# Altium integrated library ST Memory EEPROM Flash.IntLib: 1183 symbols (part 16 of 23)
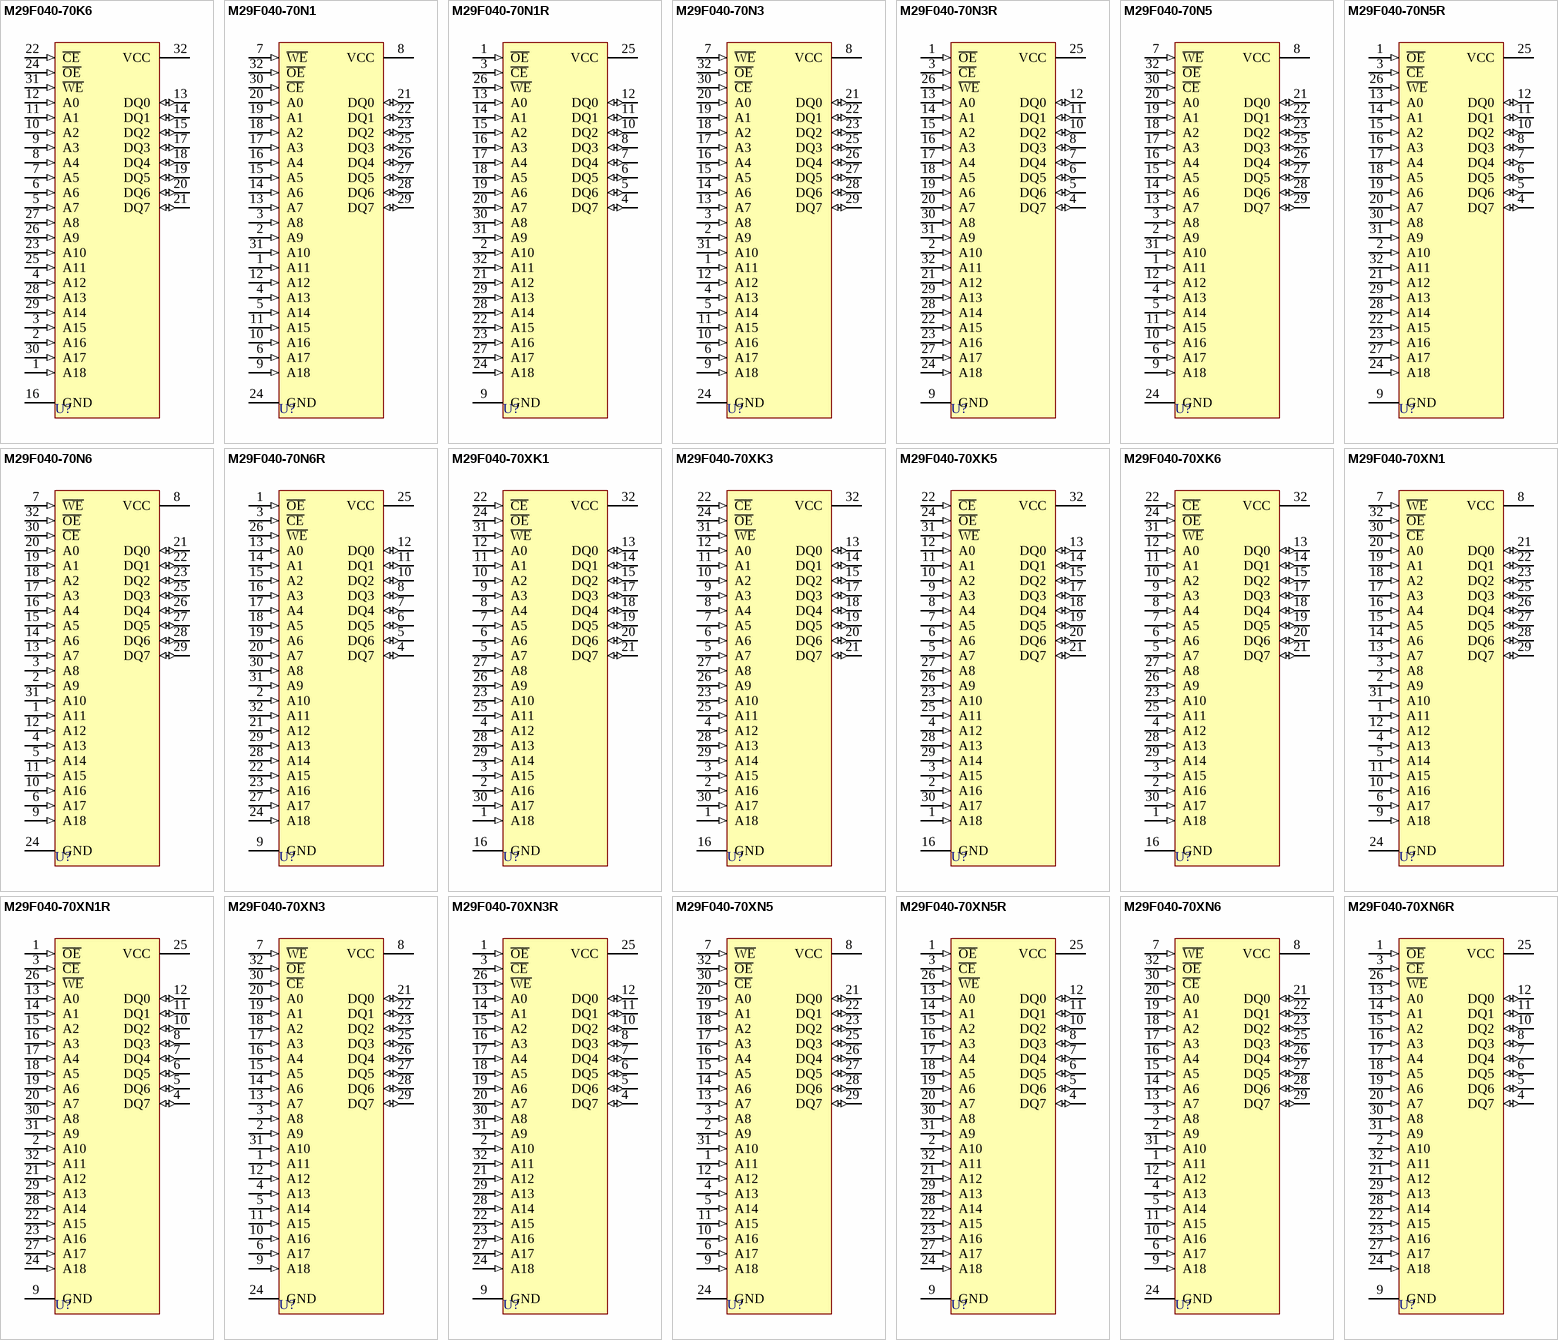
[diagram p96: symbols M29F040-70K6 to M29F040-70XN6R]

## M29F040-70N1
designator U?
4 Mbit (512Kb x8, Block Erase) Single Supply Flash Memory; Published: 24-Aug-2001; LatestRevisionDate: 26-May-2004; LatestRevisionNote: Pad length of PCB Footprint increased.; DatasheetDocument: Nov-1999; PackageDocument: Mar-1999; PackageReference: TSOP32; Publisher: Altium Limited; Code_JEDEC: MO-142-BD
footprint TSOP32 (Shrink Small Outline, Plastic, Thin; 32 Leads; Body Width 18.4 mm; Pitch 0.5 mm)
pins: 1 A11 (in), 2 A9 (in), 3 A8 (in), 4 A13 (in), 5 A14 (in), 6 A17 (in), 7 ~{WE} (in), 8 VCC (power), 9 A18 (in), 10 A16 (in), 11 A15 (in), 12 A12 (in), 13 A7 (in), 14 A6 (in), 15 A5 (in), 16 A4 (in), 17 A3 (in), 18 A2 (in), 19 A1 (in), 20 A0 (in), 21 DQ0 (io), 22 DQ1 (io), 23 DQ2 (io), 24 GND (power), 25 DQ3 (io), 26 DQ4 (io), 27 DQ5 (io), 28 DQ6 (io), 29 DQ7 (io), 30 ~{CE} (in), 31 A10 (in), 32 ~{OE} (in)

## M29F040-70N1R
designator U?
4 Mbit (512Kb x8, Block Erase) Single Supply Flash Memory; Published: 24-Aug-2001; LatestRevisionDate: 26-May-2004; LatestRevisionNote: Pad length of PCB Footprint increased.; DatasheetDocument: Nov-1999; PackageDocument: Mar-1999; PackageReference: TSOP32; Publisher: Altium Limited; Code_JEDEC: MO-142-BD
footprint TSOP32 (Shrink Small Outline, Plastic, Thin; 32 Leads; Body Width 18.4 mm; Pitch 0.5 mm)
pins: 1 ~{OE} (in), 2 A10 (in), 3 ~{CE} (in), 4 DQ7 (io), 5 DQ6 (io), 6 DQ5 (io), 7 DQ4 (io), 8 DQ3 (io), 9 GND (power), 10 DQ2 (io), 11 DQ1 (io), 12 DQ0 (io), 13 A0 (in), 14 A1 (in), 15 A2 (in), 16 A3 (in), 17 A4 (in), 18 A5 (in), 19 A6 (in), 20 A7 (in), 21 A12 (in), 22 A15 (in), 23 A16 (in), 24 A18 (in), 25 VCC (power), 26 ~{WE} (in), 27 A17 (in), 28 A14 (in), 29 A13 (in), 30 A8 (in), 31 A9 (in), 32 A11 (in)

## M29F040-70N3
designator U?
4 Mbit (512Kb x8, Block Erase) Single Supply Flash Memory; Published: 24-Aug-2001; LatestRevisionDate: 26-May-2004; LatestRevisionNote: Pad length of PCB Footprint increased.; DatasheetDocument: Nov-1999; PackageDocument: Mar-1999; PackageReference: TSOP32; Publisher: Altium Limited; Code_JEDEC: MO-142-BD
footprint TSOP32 (Shrink Small Outline, Plastic, Thin; 32 Leads; Body Width 18.4 mm; Pitch 0.5 mm)
pins: 1 A11 (in), 2 A9 (in), 3 A8 (in), 4 A13 (in), 5 A14 (in), 6 A17 (in), 7 ~{WE} (in), 8 VCC (power), 9 A18 (in), 10 A16 (in), 11 A15 (in), 12 A12 (in), 13 A7 (in), 14 A6 (in), 15 A5 (in), 16 A4 (in), 17 A3 (in), 18 A2 (in), 19 A1 (in), 20 A0 (in), 21 DQ0 (io), 22 DQ1 (io), 23 DQ2 (io), 24 GND (power), 25 DQ3 (io), 26 DQ4 (io), 27 DQ5 (io), 28 DQ6 (io), 29 DQ7 (io), 30 ~{CE} (in), 31 A10 (in), 32 ~{OE} (in)

## M29F040-70N3R
designator U?
4 Mbit (512Kb x8, Block Erase) Single Supply Flash Memory; Published: 24-Aug-2001; LatestRevisionDate: 26-May-2004; LatestRevisionNote: Pad length of PCB Footprint increased.; DatasheetDocument: Nov-1999; PackageDocument: Mar-1999; PackageReference: TSOP32; Publisher: Altium Limited; Code_JEDEC: MO-142-BD
footprint TSOP32 (Shrink Small Outline, Plastic, Thin; 32 Leads; Body Width 18.4 mm; Pitch 0.5 mm)
pins: 1 ~{OE} (in), 2 A10 (in), 3 ~{CE} (in), 4 DQ7 (io), 5 DQ6 (io), 6 DQ5 (io), 7 DQ4 (io), 8 DQ3 (io), 9 GND (power), 10 DQ2 (io), 11 DQ1 (io), 12 DQ0 (io), 13 A0 (in), 14 A1 (in), 15 A2 (in), 16 A3 (in), 17 A4 (in), 18 A5 (in), 19 A6 (in), 20 A7 (in), 21 A12 (in), 22 A15 (in), 23 A16 (in), 24 A18 (in), 25 VCC (power), 26 ~{WE} (in), 27 A17 (in), 28 A14 (in), 29 A13 (in), 30 A8 (in), 31 A9 (in), 32 A11 (in)

## M29F040-70N5
designator U?
4 Mbit (512Kb x8, Block Erase) Single Supply Flash Memory; Published: 24-Aug-2001; LatestRevisionDate: 26-May-2004; LatestRevisionNote: Pad length of PCB Footprint increased.; DatasheetDocument: Nov-1999; PackageDocument: Mar-1999; PackageReference: TSOP32; Publisher: Altium Limited; Code_JEDEC: MO-142-BD
footprint TSOP32 (Shrink Small Outline, Plastic, Thin; 32 Leads; Body Width 18.4 mm; Pitch 0.5 mm)
pins: 1 A11 (in), 2 A9 (in), 3 A8 (in), 4 A13 (in), 5 A14 (in), 6 A17 (in), 7 ~{WE} (in), 8 VCC (power), 9 A18 (in), 10 A16 (in), 11 A15 (in), 12 A12 (in), 13 A7 (in), 14 A6 (in), 15 A5 (in), 16 A4 (in), 17 A3 (in), 18 A2 (in), 19 A1 (in), 20 A0 (in), 21 DQ0 (io), 22 DQ1 (io), 23 DQ2 (io), 24 GND (power), 25 DQ3 (io), 26 DQ4 (io), 27 DQ5 (io), 28 DQ6 (io), 29 DQ7 (io), 30 ~{CE} (in), 31 A10 (in), 32 ~{OE} (in)

## M29F040-70N5R
designator U?
4 Mbit (512Kb x8, Block Erase) Single Supply Flash Memory; Published: 24-Aug-2001; LatestRevisionDate: 26-May-2004; LatestRevisionNote: Pad length of PCB Footprint increased.; DatasheetDocument: Nov-1999; PackageDocument: Mar-1999; PackageReference: TSOP32; Publisher: Altium Limited; Code_JEDEC: MO-142-BD
footprint TSOP32 (Shrink Small Outline, Plastic, Thin; 32 Leads; Body Width 18.4 mm; Pitch 0.5 mm)
pins: 1 ~{OE} (in), 2 A10 (in), 3 ~{CE} (in), 4 DQ7 (io), 5 DQ6 (io), 6 DQ5 (io), 7 DQ4 (io), 8 DQ3 (io), 9 GND (power), 10 DQ2 (io), 11 DQ1 (io), 12 DQ0 (io), 13 A0 (in), 14 A1 (in), 15 A2 (in), 16 A3 (in), 17 A4 (in), 18 A5 (in), 19 A6 (in), 20 A7 (in), 21 A12 (in), 22 A15 (in), 23 A16 (in), 24 A18 (in), 25 VCC (power), 26 ~{WE} (in), 27 A17 (in), 28 A14 (in), 29 A13 (in), 30 A8 (in), 31 A9 (in), 32 A11 (in)

## M29F040-70N6
designator U?
4 Mbit (512Kb x8, Block Erase) Single Supply Flash Memory; Published: 24-Aug-2001; LatestRevisionDate: 26-May-2004; LatestRevisionNote: Pad length of PCB Footprint increased.; DatasheetDocument: Nov-1999; PackageDocument: Mar-1999; PackageReference: TSOP32; Publisher: Altium Limited; Code_JEDEC: MO-142-BD
footprint TSOP32 (Shrink Small Outline, Plastic, Thin; 32 Leads; Body Width 18.4 mm; Pitch 0.5 mm)
pins: 1 A11 (in), 2 A9 (in), 3 A8 (in), 4 A13 (in), 5 A14 (in), 6 A17 (in), 7 ~{WE} (in), 8 VCC (power), 9 A18 (in), 10 A16 (in), 11 A15 (in), 12 A12 (in), 13 A7 (in), 14 A6 (in), 15 A5 (in), 16 A4 (in), 17 A3 (in), 18 A2 (in), 19 A1 (in), 20 A0 (in), 21 DQ0 (io), 22 DQ1 (io), 23 DQ2 (io), 24 GND (power), 25 DQ3 (io), 26 DQ4 (io), 27 DQ5 (io), 28 DQ6 (io), 29 DQ7 (io), 30 ~{CE} (in), 31 A10 (in), 32 ~{OE} (in)

## M29F040-70N6R
designator U?
4 Mbit (512Kb x8, Block Erase) Single Supply Flash Memory; Published: 24-Aug-2001; LatestRevisionDate: 26-May-2004; LatestRevisionNote: Pad length of PCB Footprint increased.; DatasheetDocument: Nov-1999; PackageDocument: Mar-1999; PackageReference: TSOP32; Publisher: Altium Limited; Code_JEDEC: MO-142-BD
footprint TSOP32 (Shrink Small Outline, Plastic, Thin; 32 Leads; Body Width 18.4 mm; Pitch 0.5 mm)
pins: 1 ~{OE} (in), 2 A10 (in), 3 ~{CE} (in), 4 DQ7 (io), 5 DQ6 (io), 6 DQ5 (io), 7 DQ4 (io), 8 DQ3 (io), 9 GND (power), 10 DQ2 (io), 11 DQ1 (io), 12 DQ0 (io), 13 A0 (in), 14 A1 (in), 15 A2 (in), 16 A3 (in), 17 A4 (in), 18 A5 (in), 19 A6 (in), 20 A7 (in), 21 A12 (in), 22 A15 (in), 23 A16 (in), 24 A18 (in), 25 VCC (power), 26 ~{WE} (in), 27 A17 (in), 28 A14 (in), 29 A13 (in), 30 A8 (in), 31 A9 (in), 32 A11 (in)

## M29F040-70XK1
designator U?
4 Mbit (512Kb x8, Block Erase) Single Supply Flash Memory; Published: 24-Aug-2001; LatestRevisionDate: 17-Jul-2002; LatestRevisionNote: Re-released for DXP Platform.; DatasheetDocument: Nov-1999; PackageDocument: Jun-1998; PackageReference: PLCC32; Publisher: Altium Limited; Code_JEDEC: MS-016-AE; Code_IPC: PLCC/R-32
footprint PLCC32 (Leaded Chip Carrier; 32 Leads; Body 11.4 x 14 mm)
pins: 1 A18 (in), 2 A16 (in), 3 A15 (in), 4 A12 (in), 5 A7 (in), 6 A6 (in), 7 A5 (in), 8 A4 (in), 9 A3 (in), 10 A2 (in), 11 A1 (in), 12 A0 (in), 13 DQ0 (io), 14 DQ1 (io), 15 DQ2 (io), 16 GND (power), 17 DQ3 (io), 18 DQ4 (io), 19 DQ5 (io), 20 DQ6 (io), 21 DQ7 (io), 22 ~{CE} (in), 23 A10 (in), 24 ~{OE} (in), 25 A11 (in), 26 A9 (in), 27 A8 (in), 28 A13 (in), 29 A14 (in), 30 A17 (in), 31 ~{WE} (in), 32 VCC (power)

## M29F040-70XK3
designator U?
4 Mbit (512Kb x8, Block Erase) Single Supply Flash Memory; Published: 24-Aug-2001; LatestRevisionDate: 17-Jul-2002; LatestRevisionNote: Re-released for DXP Platform.; DatasheetDocument: Nov-1999; PackageDocument: Jun-1998; PackageReference: PLCC32; Publisher: Altium Limited; Code_JEDEC: MS-016-AE; Code_IPC: PLCC/R-32
footprint PLCC32 (Leaded Chip Carrier; 32 Leads; Body 11.4 x 14 mm)
pins: 1 A18 (in), 2 A16 (in), 3 A15 (in), 4 A12 (in), 5 A7 (in), 6 A6 (in), 7 A5 (in), 8 A4 (in), 9 A3 (in), 10 A2 (in), 11 A1 (in), 12 A0 (in), 13 DQ0 (io), 14 DQ1 (io), 15 DQ2 (io), 16 GND (power), 17 DQ3 (io), 18 DQ4 (io), 19 DQ5 (io), 20 DQ6 (io), 21 DQ7 (io), 22 ~{CE} (in), 23 A10 (in), 24 ~{OE} (in), 25 A11 (in), 26 A9 (in), 27 A8 (in), 28 A13 (in), 29 A14 (in), 30 A17 (in), 31 ~{WE} (in), 32 VCC (power)

## M29F040-70XK5
designator U?
4 Mbit (512Kb x8, Block Erase) Single Supply Flash Memory; Published: 24-Aug-2001; LatestRevisionDate: 17-Jul-2002; LatestRevisionNote: Re-released for DXP Platform.; DatasheetDocument: Nov-1999; PackageDocument: Jun-1998; PackageReference: PLCC32; Publisher: Altium Limited; Code_JEDEC: MS-016-AE; Code_IPC: PLCC/R-32
footprint PLCC32 (Leaded Chip Carrier; 32 Leads; Body 11.4 x 14 mm)
pins: 1 A18 (in), 2 A16 (in), 3 A15 (in), 4 A12 (in), 5 A7 (in), 6 A6 (in), 7 A5 (in), 8 A4 (in), 9 A3 (in), 10 A2 (in), 11 A1 (in), 12 A0 (in), 13 DQ0 (io), 14 DQ1 (io), 15 DQ2 (io), 16 GND (power), 17 DQ3 (io), 18 DQ4 (io), 19 DQ5 (io), 20 DQ6 (io), 21 DQ7 (io), 22 ~{CE} (in), 23 A10 (in), 24 ~{OE} (in), 25 A11 (in), 26 A9 (in), 27 A8 (in), 28 A13 (in), 29 A14 (in), 30 A17 (in), 31 ~{WE} (in), 32 VCC (power)

## M29F040-70XK6
designator U?
4 Mbit (512Kb x8, Block Erase) Single Supply Flash Memory; Published: 24-Aug-2001; LatestRevisionDate: 17-Jul-2002; LatestRevisionNote: Re-released for DXP Platform.; DatasheetDocument: Nov-1999; PackageDocument: Jun-1998; PackageReference: PLCC32; Publisher: Altium Limited; Code_JEDEC: MS-016-AE; Code_IPC: PLCC/R-32
footprint PLCC32 (Leaded Chip Carrier; 32 Leads; Body 11.4 x 14 mm)
pins: 1 A18 (in), 2 A16 (in), 3 A15 (in), 4 A12 (in), 5 A7 (in), 6 A6 (in), 7 A5 (in), 8 A4 (in), 9 A3 (in), 10 A2 (in), 11 A1 (in), 12 A0 (in), 13 DQ0 (io), 14 DQ1 (io), 15 DQ2 (io), 16 GND (power), 17 DQ3 (io), 18 DQ4 (io), 19 DQ5 (io), 20 DQ6 (io), 21 DQ7 (io), 22 ~{CE} (in), 23 A10 (in), 24 ~{OE} (in), 25 A11 (in), 26 A9 (in), 27 A8 (in), 28 A13 (in), 29 A14 (in), 30 A17 (in), 31 ~{WE} (in), 32 VCC (power)

## M29F040-70XN1
designator U?
4 Mbit (512Kb x8, Block Erase) Single Supply Flash Memory; Published: 24-Aug-2001; LatestRevisionDate: 26-May-2004; LatestRevisionNote: Pad length of PCB Footprint increased.; DatasheetDocument: Nov-1999; PackageDocument: Mar-1999; PackageReference: TSOP32; Publisher: Altium Limited; Code_JEDEC: MO-142-BD
footprint TSOP32 (Shrink Small Outline, Plastic, Thin; 32 Leads; Body Width 18.4 mm; Pitch 0.5 mm)
pins: 1 A11 (in), 2 A9 (in), 3 A8 (in), 4 A13 (in), 5 A14 (in), 6 A17 (in), 7 ~{WE} (in), 8 VCC (power), 9 A18 (in), 10 A16 (in), 11 A15 (in), 12 A12 (in), 13 A7 (in), 14 A6 (in), 15 A5 (in), 16 A4 (in), 17 A3 (in), 18 A2 (in), 19 A1 (in), 20 A0 (in), 21 DQ0 (io), 22 DQ1 (io), 23 DQ2 (io), 24 GND (power), 25 DQ3 (io), 26 DQ4 (io), 27 DQ5 (io), 28 DQ6 (io), 29 DQ7 (io), 30 ~{CE} (in), 31 A10 (in), 32 ~{OE} (in)

## M29F040-70XN1R
designator U?
4 Mbit (512Kb x8, Block Erase) Single Supply Flash Memory; Published: 24-Aug-2001; LatestRevisionDate: 26-May-2004; LatestRevisionNote: Pad length of PCB Footprint increased.; DatasheetDocument: Nov-1999; PackageDocument: Mar-1999; PackageReference: TSOP32; Publisher: Altium Limited; Code_JEDEC: MO-142-BD
footprint TSOP32 (Shrink Small Outline, Plastic, Thin; 32 Leads; Body Width 18.4 mm; Pitch 0.5 mm)
pins: 1 ~{OE} (in), 2 A10 (in), 3 ~{CE} (in), 4 DQ7 (io), 5 DQ6 (io), 6 DQ5 (io), 7 DQ4 (io), 8 DQ3 (io), 9 GND (power), 10 DQ2 (io), 11 DQ1 (io), 12 DQ0 (io), 13 A0 (in), 14 A1 (in), 15 A2 (in), 16 A3 (in), 17 A4 (in), 18 A5 (in), 19 A6 (in), 20 A7 (in), 21 A12 (in), 22 A15 (in), 23 A16 (in), 24 A18 (in), 25 VCC (power), 26 ~{WE} (in), 27 A17 (in), 28 A14 (in), 29 A13 (in), 30 A8 (in), 31 A9 (in), 32 A11 (in)

## M29F040-70XN3
designator U?
4 Mbit (512Kb x8, Block Erase) Single Supply Flash Memory; Published: 24-Aug-2001; LatestRevisionDate: 26-May-2004; LatestRevisionNote: Pad length of PCB Footprint increased.; DatasheetDocument: Nov-1999; PackageDocument: Mar-1999; PackageReference: TSOP32; Publisher: Altium Limited; Code_JEDEC: MO-142-BD
footprint TSOP32 (Shrink Small Outline, Plastic, Thin; 32 Leads; Body Width 18.4 mm; Pitch 0.5 mm)
pins: 1 A11 (in), 2 A9 (in), 3 A8 (in), 4 A13 (in), 5 A14 (in), 6 A17 (in), 7 ~{WE} (in), 8 VCC (power), 9 A18 (in), 10 A16 (in), 11 A15 (in), 12 A12 (in), 13 A7 (in), 14 A6 (in), 15 A5 (in), 16 A4 (in), 17 A3 (in), 18 A2 (in), 19 A1 (in), 20 A0 (in), 21 DQ0 (io), 22 DQ1 (io), 23 DQ2 (io), 24 GND (power), 25 DQ3 (io), 26 DQ4 (io), 27 DQ5 (io), 28 DQ6 (io), 29 DQ7 (io), 30 ~{CE} (in), 31 A10 (in), 32 ~{OE} (in)

## M29F040-70XN3R
designator U?
4 Mbit (512Kb x8, Block Erase) Single Supply Flash Memory; Published: 24-Aug-2001; LatestRevisionDate: 26-May-2004; LatestRevisionNote: Pad length of PCB Footprint increased.; DatasheetDocument: Nov-1999; PackageDocument: Mar-1999; PackageReference: TSOP32; Publisher: Altium Limited; Code_JEDEC: MO-142-BD
footprint TSOP32 (Shrink Small Outline, Plastic, Thin; 32 Leads; Body Width 18.4 mm; Pitch 0.5 mm)
pins: 1 ~{OE} (in), 2 A10 (in), 3 ~{CE} (in), 4 DQ7 (io), 5 DQ6 (io), 6 DQ5 (io), 7 DQ4 (io), 8 DQ3 (io), 9 GND (power), 10 DQ2 (io), 11 DQ1 (io), 12 DQ0 (io), 13 A0 (in), 14 A1 (in), 15 A2 (in), 16 A3 (in), 17 A4 (in), 18 A5 (in), 19 A6 (in), 20 A7 (in), 21 A12 (in), 22 A15 (in), 23 A16 (in), 24 A18 (in), 25 VCC (power), 26 ~{WE} (in), 27 A17 (in), 28 A14 (in), 29 A13 (in), 30 A8 (in), 31 A9 (in), 32 A11 (in)

## M29F040-70XN5
designator U?
4 Mbit (512Kb x8, Block Erase) Single Supply Flash Memory; Published: 24-Aug-2001; LatestRevisionDate: 26-May-2004; LatestRevisionNote: Pad length of PCB Footprint increased.; DatasheetDocument: Nov-1999; PackageDocument: Mar-1999; PackageReference: TSOP32; Publisher: Altium Limited; Code_JEDEC: MO-142-BD
footprint TSOP32 (Shrink Small Outline, Plastic, Thin; 32 Leads; Body Width 18.4 mm; Pitch 0.5 mm)
pins: 1 A11 (in), 2 A9 (in), 3 A8 (in), 4 A13 (in), 5 A14 (in), 6 A17 (in), 7 ~{WE} (in), 8 VCC (power), 9 A18 (in), 10 A16 (in), 11 A15 (in), 12 A12 (in), 13 A7 (in), 14 A6 (in), 15 A5 (in), 16 A4 (in), 17 A3 (in), 18 A2 (in), 19 A1 (in), 20 A0 (in), 21 DQ0 (io), 22 DQ1 (io), 23 DQ2 (io), 24 GND (power), 25 DQ3 (io), 26 DQ4 (io), 27 DQ5 (io), 28 DQ6 (io), 29 DQ7 (io), 30 ~{CE} (in), 31 A10 (in), 32 ~{OE} (in)

## M29F040-70XN5R
designator U?
4 Mbit (512Kb x8, Block Erase) Single Supply Flash Memory; Published: 24-Aug-2001; LatestRevisionDate: 26-May-2004; LatestRevisionNote: Pad length of PCB Footprint increased.; DatasheetDocument: Nov-1999; PackageDocument: Mar-1999; PackageReference: TSOP32; Publisher: Altium Limited; Code_JEDEC: MO-142-BD
footprint TSOP32 (Shrink Small Outline, Plastic, Thin; 32 Leads; Body Width 18.4 mm; Pitch 0.5 mm)
pins: 1 ~{OE} (in), 2 A10 (in), 3 ~{CE} (in), 4 DQ7 (io), 5 DQ6 (io), 6 DQ5 (io), 7 DQ4 (io), 8 DQ3 (io), 9 GND (power), 10 DQ2 (io), 11 DQ1 (io), 12 DQ0 (io), 13 A0 (in), 14 A1 (in), 15 A2 (in), 16 A3 (in), 17 A4 (in), 18 A5 (in), 19 A6 (in), 20 A7 (in), 21 A12 (in), 22 A15 (in), 23 A16 (in), 24 A18 (in), 25 VCC (power), 26 ~{WE} (in), 27 A17 (in), 28 A14 (in), 29 A13 (in), 30 A8 (in), 31 A9 (in), 32 A11 (in)

## M29F040-70XN6
designator U?
4 Mbit (512Kb x8, Block Erase) Single Supply Flash Memory; Published: 24-Aug-2001; LatestRevisionDate: 26-May-2004; LatestRevisionNote: Pad length of PCB Footprint increased.; DatasheetDocument: Nov-1999; PackageDocument: Mar-1999; PackageReference: TSOP32; Publisher: Altium Limited; Code_JEDEC: MO-142-BD
footprint TSOP32 (Shrink Small Outline, Plastic, Thin; 32 Leads; Body Width 18.4 mm; Pitch 0.5 mm)
pins: 1 A11 (in), 2 A9 (in), 3 A8 (in), 4 A13 (in), 5 A14 (in), 6 A17 (in), 7 ~{WE} (in), 8 VCC (power), 9 A18 (in), 10 A16 (in), 11 A15 (in), 12 A12 (in), 13 A7 (in), 14 A6 (in), 15 A5 (in), 16 A4 (in), 17 A3 (in), 18 A2 (in), 19 A1 (in), 20 A0 (in), 21 DQ0 (io), 22 DQ1 (io), 23 DQ2 (io), 24 GND (power), 25 DQ3 (io), 26 DQ4 (io), 27 DQ5 (io), 28 DQ6 (io), 29 DQ7 (io), 30 ~{CE} (in), 31 A10 (in), 32 ~{OE} (in)

## M29F040-70XN6R
designator U?
4 Mbit (512Kb x8, Block Erase) Single Supply Flash Memory; Published: 24-Aug-2001; LatestRevisionDate: 26-May-2004; LatestRevisionNote: Pad length of PCB Footprint increased.; DatasheetDocument: Nov-1999; PackageDocument: Mar-1999; PackageReference: TSOP32; Publisher: Altium Limited; Code_JEDEC: MO-142-BD
footprint TSOP32 (Shrink Small Outline, Plastic, Thin; 32 Leads; Body Width 18.4 mm; Pitch 0.5 mm)
pins: 1 ~{OE} (in), 2 A10 (in), 3 ~{CE} (in), 4 DQ7 (io), 5 DQ6 (io), 6 DQ5 (io), 7 DQ4 (io), 8 DQ3 (io), 9 GND (power), 10 DQ2 (io), 11 DQ1 (io), 12 DQ0 (io), 13 A0 (in), 14 A1 (in), 15 A2 (in), 16 A3 (in), 17 A4 (in), 18 A5 (in), 19 A6 (in), 20 A7 (in), 21 A12 (in), 22 A15 (in), 23 A16 (in), 24 A18 (in), 25 VCC (power), 26 ~{WE} (in), 27 A17 (in), 28 A14 (in), 29 A13 (in), 30 A8 (in), 31 A9 (in), 32 A11 (in)

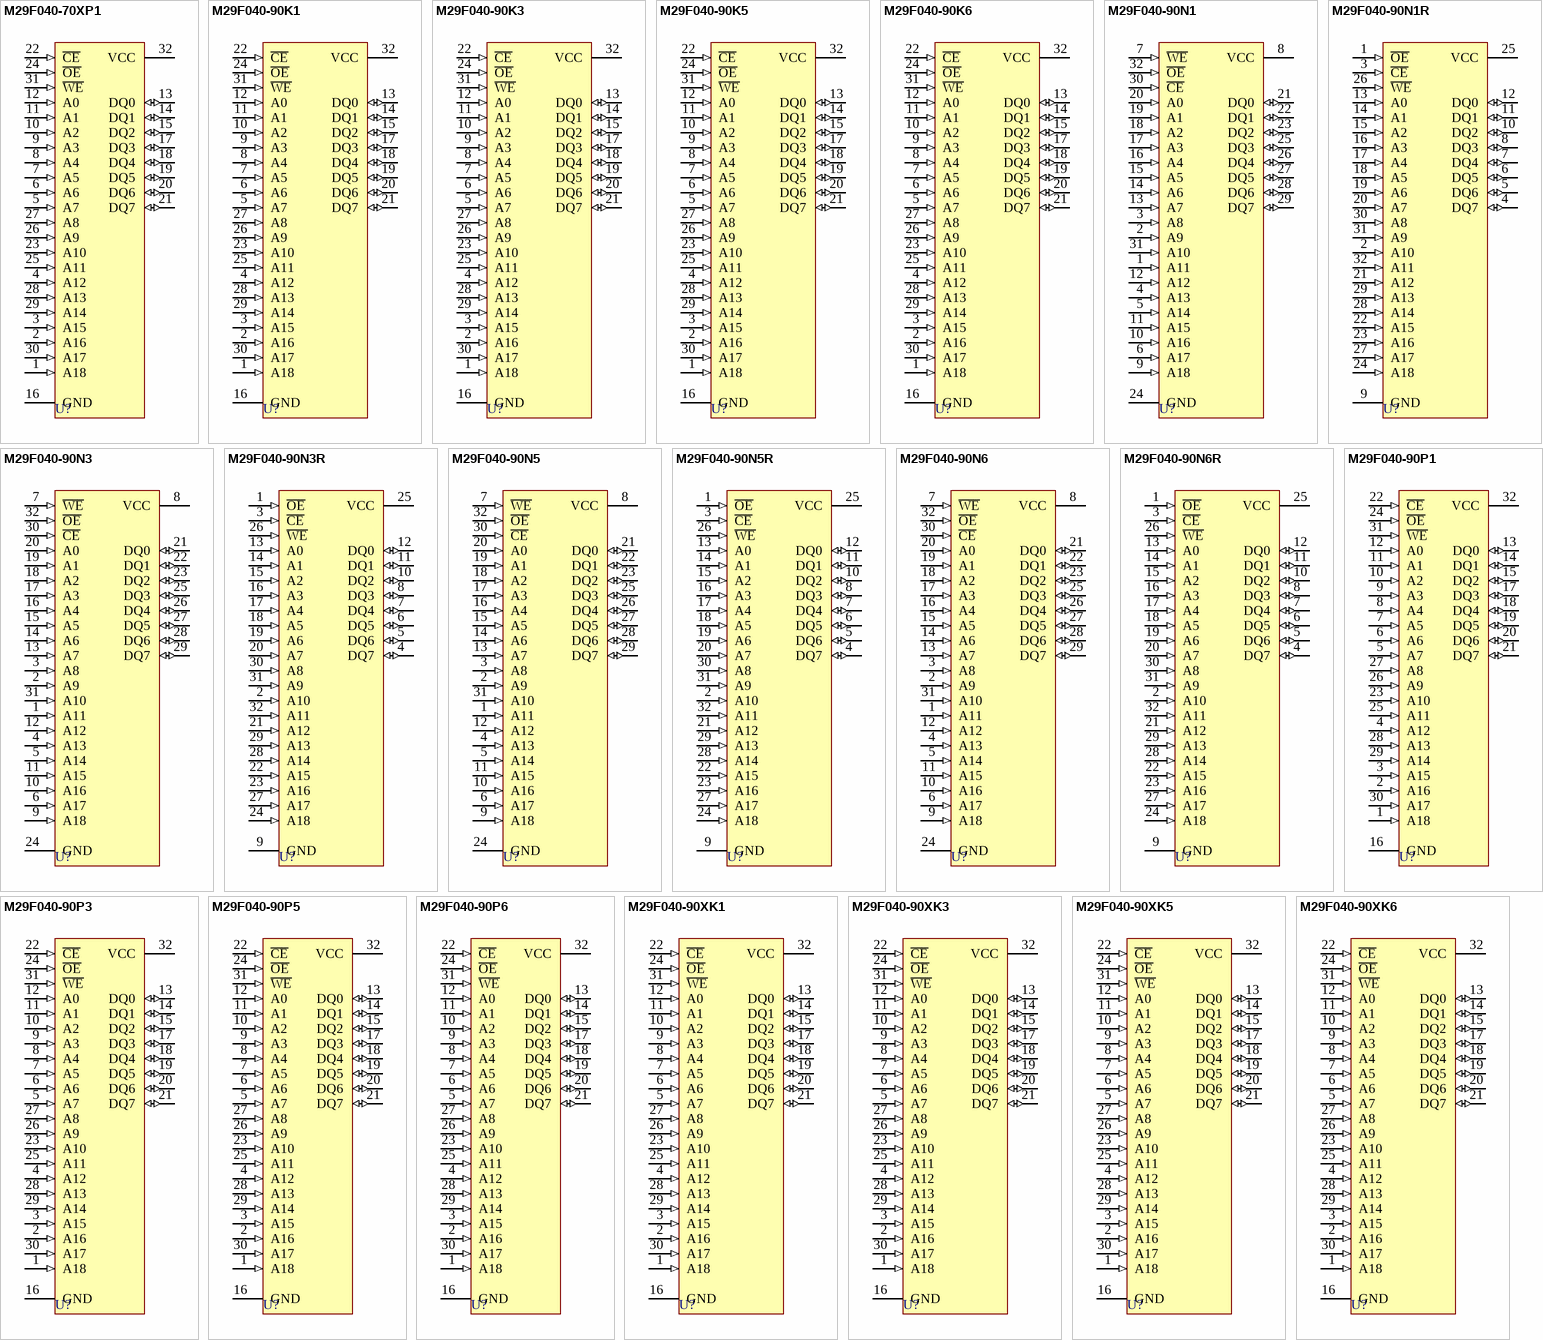
[diagram p53: symbols M29F040-70XP1 to M29F040-90XK6]

## M29F040-70XP1
designator U?
4 Mbit (512K x 8, Block Erase) Single Supply Flash Memory; PackageDocument: 1998; Published: 24-Aug-2001; LatestRevisionDate: 17-Jul-2002; LatestRevisionNote: Re-released for DXP Platform.; DatasheetDocument: Jun-1995; PackageReference: PDIP32; Publisher: Altium Limited
footprint PDIP32 (DIP, Plastic; 32 Leads; Row Spacing 15.24 mm; Pitch 2.54 mm)
pins: 1 A18 (in), 2 A16 (in), 3 A15 (in), 4 A12 (in), 5 A7 (in), 6 A6 (in), 7 A5 (in), 8 A4 (in), 9 A3 (in), 10 A2 (in), 11 A1 (in), 12 A0 (in), 13 DQ0 (io), 14 DQ1 (io), 15 DQ2 (io), 16 GND (power), 17 DQ3 (io), 18 DQ4 (io), 19 DQ5 (io), 20 DQ6 (io), 21 DQ7 (io), 22 ~{CE} (in), 23 A10 (in), 24 ~{OE} (in), 25 A11 (in), 26 A9 (in), 27 A8 (in), 28 A13 (in), 29 A14 (in), 30 A17 (in), 31 ~{WE} (in), 32 VCC (power)

## M29F040-90K1
designator U?
4 Mbit (512Kb x8, Block Erase) Single Supply Flash Memory; Published: 24-Aug-2001; LatestRevisionDate: 17-Jul-2002; LatestRevisionNote: Re-released for DXP Platform.; DatasheetDocument: Nov-1999; PackageDocument: Jun-1998; PackageReference: PLCC32; Publisher: Altium Limited; Code_JEDEC: MS-016-AE; Code_IPC: PLCC/R-32
footprint PLCC32 (Leaded Chip Carrier; 32 Leads; Body 11.4 x 14 mm)
pins: 1 A18 (in), 2 A16 (in), 3 A15 (in), 4 A12 (in), 5 A7 (in), 6 A6 (in), 7 A5 (in), 8 A4 (in), 9 A3 (in), 10 A2 (in), 11 A1 (in), 12 A0 (in), 13 DQ0 (io), 14 DQ1 (io), 15 DQ2 (io), 16 GND (power), 17 DQ3 (io), 18 DQ4 (io), 19 DQ5 (io), 20 DQ6 (io), 21 DQ7 (io), 22 ~{CE} (in), 23 A10 (in), 24 ~{OE} (in), 25 A11 (in), 26 A9 (in), 27 A8 (in), 28 A13 (in), 29 A14 (in), 30 A17 (in), 31 ~{WE} (in), 32 VCC (power)

## M29F040-90K3
designator U?
4 Mbit (512Kb x8, Block Erase) Single Supply Flash Memory; Published: 24-Aug-2001; LatestRevisionDate: 17-Jul-2002; LatestRevisionNote: Re-released for DXP Platform.; DatasheetDocument: Nov-1999; PackageDocument: Jun-1998; PackageReference: PLCC32; Publisher: Altium Limited; Code_JEDEC: MS-016-AE; Code_IPC: PLCC/R-32
footprint PLCC32 (Leaded Chip Carrier; 32 Leads; Body 11.4 x 14 mm)
pins: 1 A18 (in), 2 A16 (in), 3 A15 (in), 4 A12 (in), 5 A7 (in), 6 A6 (in), 7 A5 (in), 8 A4 (in), 9 A3 (in), 10 A2 (in), 11 A1 (in), 12 A0 (in), 13 DQ0 (io), 14 DQ1 (io), 15 DQ2 (io), 16 GND (power), 17 DQ3 (io), 18 DQ4 (io), 19 DQ5 (io), 20 DQ6 (io), 21 DQ7 (io), 22 ~{CE} (in), 23 A10 (in), 24 ~{OE} (in), 25 A11 (in), 26 A9 (in), 27 A8 (in), 28 A13 (in), 29 A14 (in), 30 A17 (in), 31 ~{WE} (in), 32 VCC (power)

## M29F040-90K5
designator U?
4 Mbit (512Kb x8, Block Erase) Single Supply Flash Memory; Published: 24-Aug-2001; LatestRevisionDate: 17-Jul-2002; LatestRevisionNote: Re-released for DXP Platform.; DatasheetDocument: Nov-1999; PackageDocument: Jun-1998; PackageReference: PLCC32; Publisher: Altium Limited; Code_JEDEC: MS-016-AE; Code_IPC: PLCC/R-32
footprint PLCC32 (Leaded Chip Carrier; 32 Leads; Body 11.4 x 14 mm)
pins: 1 A18 (in), 2 A16 (in), 3 A15 (in), 4 A12 (in), 5 A7 (in), 6 A6 (in), 7 A5 (in), 8 A4 (in), 9 A3 (in), 10 A2 (in), 11 A1 (in), 12 A0 (in), 13 DQ0 (io), 14 DQ1 (io), 15 DQ2 (io), 16 GND (power), 17 DQ3 (io), 18 DQ4 (io), 19 DQ5 (io), 20 DQ6 (io), 21 DQ7 (io), 22 ~{CE} (in), 23 A10 (in), 24 ~{OE} (in), 25 A11 (in), 26 A9 (in), 27 A8 (in), 28 A13 (in), 29 A14 (in), 30 A17 (in), 31 ~{WE} (in), 32 VCC (power)

## M29F040-90K6
designator U?
4 Mbit (512Kb x8, Block Erase) Single Supply Flash Memory; Published: 24-Aug-2001; LatestRevisionDate: 17-Jul-2002; LatestRevisionNote: Re-released for DXP Platform.; DatasheetDocument: Nov-1999; PackageDocument: Jun-1998; PackageReference: PLCC32; Publisher: Altium Limited; Code_JEDEC: MS-016-AE; Code_IPC: PLCC/R-32
footprint PLCC32 (Leaded Chip Carrier; 32 Leads; Body 11.4 x 14 mm)
pins: 1 A18 (in), 2 A16 (in), 3 A15 (in), 4 A12 (in), 5 A7 (in), 6 A6 (in), 7 A5 (in), 8 A4 (in), 9 A3 (in), 10 A2 (in), 11 A1 (in), 12 A0 (in), 13 DQ0 (io), 14 DQ1 (io), 15 DQ2 (io), 16 GND (power), 17 DQ3 (io), 18 DQ4 (io), 19 DQ5 (io), 20 DQ6 (io), 21 DQ7 (io), 22 ~{CE} (in), 23 A10 (in), 24 ~{OE} (in), 25 A11 (in), 26 A9 (in), 27 A8 (in), 28 A13 (in), 29 A14 (in), 30 A17 (in), 31 ~{WE} (in), 32 VCC (power)

## M29F040-90N1
designator U?
4 Mbit (512Kb x8, Block Erase) Single Supply Flash Memory; Published: 24-Aug-2001; LatestRevisionDate: 26-May-2004; LatestRevisionNote: Pad length of PCB Footprint increased.; DatasheetDocument: Nov-1999; PackageDocument: Mar-1999; PackageReference: TSOP32; Publisher: Altium Limited; Code_JEDEC: MO-142-BD
footprint TSOP32 (Shrink Small Outline, Plastic, Thin; 32 Leads; Body Width 18.4 mm; Pitch 0.5 mm)
pins: 1 A11 (in), 2 A9 (in), 3 A8 (in), 4 A13 (in), 5 A14 (in), 6 A17 (in), 7 ~{WE} (in), 8 VCC (power), 9 A18 (in), 10 A16 (in), 11 A15 (in), 12 A12 (in), 13 A7 (in), 14 A6 (in), 15 A5 (in), 16 A4 (in), 17 A3 (in), 18 A2 (in), 19 A1 (in), 20 A0 (in), 21 DQ0 (io), 22 DQ1 (io), 23 DQ2 (io), 24 GND (power), 25 DQ3 (io), 26 DQ4 (io), 27 DQ5 (io), 28 DQ6 (io), 29 DQ7 (io), 30 ~{CE} (in), 31 A10 (in), 32 ~{OE} (in)

## M29F040-90N1R
designator U?
4 Mbit (512Kb x8, Block Erase) Single Supply Flash Memory; Published: 24-Aug-2001; LatestRevisionDate: 26-May-2004; LatestRevisionNote: Pad length of PCB Footprint increased.; DatasheetDocument: Nov-1999; PackageDocument: Mar-1999; PackageReference: TSOP32; Publisher: Altium Limited; Code_JEDEC: MO-142-BD
footprint TSOP32 (Shrink Small Outline, Plastic, Thin; 32 Leads; Body Width 18.4 mm; Pitch 0.5 mm)
pins: 1 ~{OE} (in), 2 A10 (in), 3 ~{CE} (in), 4 DQ7 (io), 5 DQ6 (io), 6 DQ5 (io), 7 DQ4 (io), 8 DQ3 (io), 9 GND (power), 10 DQ2 (io), 11 DQ1 (io), 12 DQ0 (io), 13 A0 (in), 14 A1 (in), 15 A2 (in), 16 A3 (in), 17 A4 (in), 18 A5 (in), 19 A6 (in), 20 A7 (in), 21 A12 (in), 22 A15 (in), 23 A16 (in), 24 A18 (in), 25 VCC (power), 26 ~{WE} (in), 27 A17 (in), 28 A14 (in), 29 A13 (in), 30 A8 (in), 31 A9 (in), 32 A11 (in)

## M29F040-90N3
designator U?
4 Mbit (512Kb x8, Block Erase) Single Supply Flash Memory; Published: 24-Aug-2001; LatestRevisionDate: 26-May-2004; LatestRevisionNote: Pad length of PCB Footprint increased.; DatasheetDocument: Nov-1999; PackageDocument: Mar-1999; PackageReference: TSOP32; Publisher: Altium Limited; Code_JEDEC: MO-142-BD
footprint TSOP32 (Shrink Small Outline, Plastic, Thin; 32 Leads; Body Width 18.4 mm; Pitch 0.5 mm)
pins: 1 A11 (in), 2 A9 (in), 3 A8 (in), 4 A13 (in), 5 A14 (in), 6 A17 (in), 7 ~{WE} (in), 8 VCC (power), 9 A18 (in), 10 A16 (in), 11 A15 (in), 12 A12 (in), 13 A7 (in), 14 A6 (in), 15 A5 (in), 16 A4 (in), 17 A3 (in), 18 A2 (in), 19 A1 (in), 20 A0 (in), 21 DQ0 (io), 22 DQ1 (io), 23 DQ2 (io), 24 GND (power), 25 DQ3 (io), 26 DQ4 (io), 27 DQ5 (io), 28 DQ6 (io), 29 DQ7 (io), 30 ~{CE} (in), 31 A10 (in), 32 ~{OE} (in)

## M29F040-90N3R
designator U?
4 Mbit (512Kb x8, Block Erase) Single Supply Flash Memory; Published: 24-Aug-2001; LatestRevisionDate: 26-May-2004; LatestRevisionNote: Pad length of PCB Footprint increased.; DatasheetDocument: Nov-1999; PackageDocument: Mar-1999; PackageReference: TSOP32; Publisher: Altium Limited; Code_JEDEC: MO-142-BD
footprint TSOP32 (Shrink Small Outline, Plastic, Thin; 32 Leads; Body Width 18.4 mm; Pitch 0.5 mm)
pins: 1 ~{OE} (in), 2 A10 (in), 3 ~{CE} (in), 4 DQ7 (io), 5 DQ6 (io), 6 DQ5 (io), 7 DQ4 (io), 8 DQ3 (io), 9 GND (power), 10 DQ2 (io), 11 DQ1 (io), 12 DQ0 (io), 13 A0 (in), 14 A1 (in), 15 A2 (in), 16 A3 (in), 17 A4 (in), 18 A5 (in), 19 A6 (in), 20 A7 (in), 21 A12 (in), 22 A15 (in), 23 A16 (in), 24 A18 (in), 25 VCC (power), 26 ~{WE} (in), 27 A17 (in), 28 A14 (in), 29 A13 (in), 30 A8 (in), 31 A9 (in), 32 A11 (in)

## M29F040-90N5
designator U?
4 Mbit (512Kb x8, Block Erase) Single Supply Flash Memory; Published: 24-Aug-2001; LatestRevisionDate: 26-May-2004; LatestRevisionNote: Pad length of PCB Footprint increased.; DatasheetDocument: Nov-1999; PackageDocument: Mar-1999; PackageReference: TSOP32; Publisher: Altium Limited; Code_JEDEC: MO-142-BD
footprint TSOP32 (Shrink Small Outline, Plastic, Thin; 32 Leads; Body Width 18.4 mm; Pitch 0.5 mm)
pins: 1 A11 (in), 2 A9 (in), 3 A8 (in), 4 A13 (in), 5 A14 (in), 6 A17 (in), 7 ~{WE} (in), 8 VCC (power), 9 A18 (in), 10 A16 (in), 11 A15 (in), 12 A12 (in), 13 A7 (in), 14 A6 (in), 15 A5 (in), 16 A4 (in), 17 A3 (in), 18 A2 (in), 19 A1 (in), 20 A0 (in), 21 DQ0 (io), 22 DQ1 (io), 23 DQ2 (io), 24 GND (power), 25 DQ3 (io), 26 DQ4 (io), 27 DQ5 (io), 28 DQ6 (io), 29 DQ7 (io), 30 ~{CE} (in), 31 A10 (in), 32 ~{OE} (in)

## M29F040-90N5R
designator U?
4 Mbit (512Kb x8, Block Erase) Single Supply Flash Memory; Published: 24-Aug-2001; LatestRevisionDate: 26-May-2004; LatestRevisionNote: Pad length of PCB Footprint increased.; DatasheetDocument: Nov-1999; PackageDocument: Mar-1999; PackageReference: TSOP32; Publisher: Altium Limited; Code_JEDEC: MO-142-BD
footprint TSOP32 (Shrink Small Outline, Plastic, Thin; 32 Leads; Body Width 18.4 mm; Pitch 0.5 mm)
pins: 1 ~{OE} (in), 2 A10 (in), 3 ~{CE} (in), 4 DQ7 (io), 5 DQ6 (io), 6 DQ5 (io), 7 DQ4 (io), 8 DQ3 (io), 9 GND (power), 10 DQ2 (io), 11 DQ1 (io), 12 DQ0 (io), 13 A0 (in), 14 A1 (in), 15 A2 (in), 16 A3 (in), 17 A4 (in), 18 A5 (in), 19 A6 (in), 20 A7 (in), 21 A12 (in), 22 A15 (in), 23 A16 (in), 24 A18 (in), 25 VCC (power), 26 ~{WE} (in), 27 A17 (in), 28 A14 (in), 29 A13 (in), 30 A8 (in), 31 A9 (in), 32 A11 (in)

## M29F040-90N6
designator U?
4 Mbit (512Kb x8, Block Erase) Single Supply Flash Memory; Published: 24-Aug-2001; LatestRevisionDate: 26-May-2004; LatestRevisionNote: Pad length of PCB Footprint increased.; DatasheetDocument: Nov-1999; PackageDocument: Mar-1999; PackageReference: TSOP32; Publisher: Altium Limited; Code_JEDEC: MO-142-BD
footprint TSOP32 (Shrink Small Outline, Plastic, Thin; 32 Leads; Body Width 18.4 mm; Pitch 0.5 mm)
pins: 1 A11 (in), 2 A9 (in), 3 A8 (in), 4 A13 (in), 5 A14 (in), 6 A17 (in), 7 ~{WE} (in), 8 VCC (power), 9 A18 (in), 10 A16 (in), 11 A15 (in), 12 A12 (in), 13 A7 (in), 14 A6 (in), 15 A5 (in), 16 A4 (in), 17 A3 (in), 18 A2 (in), 19 A1 (in), 20 A0 (in), 21 DQ0 (io), 22 DQ1 (io), 23 DQ2 (io), 24 GND (power), 25 DQ3 (io), 26 DQ4 (io), 27 DQ5 (io), 28 DQ6 (io), 29 DQ7 (io), 30 ~{CE} (in), 31 A10 (in), 32 ~{OE} (in)

## M29F040-90N6R
designator U?
4 Mbit (512Kb x8, Block Erase) Single Supply Flash Memory; Published: 24-Aug-2001; LatestRevisionDate: 26-May-2004; LatestRevisionNote: Pad length of PCB Footprint increased.; DatasheetDocument: Nov-1999; PackageDocument: Mar-1999; PackageReference: TSOP32; Publisher: Altium Limited; Code_JEDEC: MO-142-BD
footprint TSOP32 (Shrink Small Outline, Plastic, Thin; 32 Leads; Body Width 18.4 mm; Pitch 0.5 mm)
pins: 1 ~{OE} (in), 2 A10 (in), 3 ~{CE} (in), 4 DQ7 (io), 5 DQ6 (io), 6 DQ5 (io), 7 DQ4 (io), 8 DQ3 (io), 9 GND (power), 10 DQ2 (io), 11 DQ1 (io), 12 DQ0 (io), 13 A0 (in), 14 A1 (in), 15 A2 (in), 16 A3 (in), 17 A4 (in), 18 A5 (in), 19 A6 (in), 20 A7 (in), 21 A12 (in), 22 A15 (in), 23 A16 (in), 24 A18 (in), 25 VCC (power), 26 ~{WE} (in), 27 A17 (in), 28 A14 (in), 29 A13 (in), 30 A8 (in), 31 A9 (in), 32 A11 (in)

## M29F040-90P1
designator U?
4 Mbit (512K x 8, Block Erase) Single Supply Flash Memory; PackageDocument: 1998; Published: 24-Aug-2001; LatestRevisionDate: 17-Jul-2002; LatestRevisionNote: Re-released for DXP Platform.; DatasheetDocument: Jun-1995; PackageReference: PDIP32; Publisher: Altium Limited
footprint PDIP32 (DIP, Plastic; 32 Leads; Row Spacing 15.24 mm; Pitch 2.54 mm)
pins: 1 A18 (in), 2 A16 (in), 3 A15 (in), 4 A12 (in), 5 A7 (in), 6 A6 (in), 7 A5 (in), 8 A4 (in), 9 A3 (in), 10 A2 (in), 11 A1 (in), 12 A0 (in), 13 DQ0 (io), 14 DQ1 (io), 15 DQ2 (io), 16 GND (power), 17 DQ3 (io), 18 DQ4 (io), 19 DQ5 (io), 20 DQ6 (io), 21 DQ7 (io), 22 ~{CE} (in), 23 A10 (in), 24 ~{OE} (in), 25 A11 (in), 26 A9 (in), 27 A8 (in), 28 A13 (in), 29 A14 (in), 30 A17 (in), 31 ~{WE} (in), 32 VCC (power)

## M29F040-90P3
designator U?
4 Mbit (512K x 8, Block Erase) Single Supply Flash Memory; PackageDocument: 1998; Published: 24-Aug-2001; LatestRevisionDate: 17-Jul-2002; LatestRevisionNote: Re-released for DXP Platform.; DatasheetDocument: Jun-1995; PackageReference: PDIP32; Publisher: Altium Limited
footprint PDIP32 (DIP, Plastic; 32 Leads; Row Spacing 15.24 mm; Pitch 2.54 mm)
pins: 1 A18 (in), 2 A16 (in), 3 A15 (in), 4 A12 (in), 5 A7 (in), 6 A6 (in), 7 A5 (in), 8 A4 (in), 9 A3 (in), 10 A2 (in), 11 A1 (in), 12 A0 (in), 13 DQ0 (io), 14 DQ1 (io), 15 DQ2 (io), 16 GND (power), 17 DQ3 (io), 18 DQ4 (io), 19 DQ5 (io), 20 DQ6 (io), 21 DQ7 (io), 22 ~{CE} (in), 23 A10 (in), 24 ~{OE} (in), 25 A11 (in), 26 A9 (in), 27 A8 (in), 28 A13 (in), 29 A14 (in), 30 A17 (in), 31 ~{WE} (in), 32 VCC (power)

## M29F040-90P5
designator U?
4 Mbit (512K x 8, Block Erase) Single Supply Flash Memory; PackageDocument: 1998; Published: 24-Aug-2001; LatestRevisionDate: 17-Jul-2002; LatestRevisionNote: Re-released for DXP Platform.; DatasheetDocument: Jun-1995; PackageReference: PDIP32; Publisher: Altium Limited
footprint PDIP32 (DIP, Plastic; 32 Leads; Row Spacing 15.24 mm; Pitch 2.54 mm)
pins: 1 A18 (in), 2 A16 (in), 3 A15 (in), 4 A12 (in), 5 A7 (in), 6 A6 (in), 7 A5 (in), 8 A4 (in), 9 A3 (in), 10 A2 (in), 11 A1 (in), 12 A0 (in), 13 DQ0 (io), 14 DQ1 (io), 15 DQ2 (io), 16 GND (power), 17 DQ3 (io), 18 DQ4 (io), 19 DQ5 (io), 20 DQ6 (io), 21 DQ7 (io), 22 ~{CE} (in), 23 A10 (in), 24 ~{OE} (in), 25 A11 (in), 26 A9 (in), 27 A8 (in), 28 A13 (in), 29 A14 (in), 30 A17 (in), 31 ~{WE} (in), 32 VCC (power)

## M29F040-90P6
designator U?
4 Mbit (512K x 8, Block Erase) Single Supply Flash Memory; PackageDocument: 1998; Published: 24-Aug-2001; LatestRevisionDate: 17-Jul-2002; LatestRevisionNote: Re-released for DXP Platform.; DatasheetDocument: Jun-1995; PackageReference: PDIP32; Publisher: Altium Limited
footprint PDIP32 (DIP, Plastic; 32 Leads; Row Spacing 15.24 mm; Pitch 2.54 mm)
pins: 1 A18 (in), 2 A16 (in), 3 A15 (in), 4 A12 (in), 5 A7 (in), 6 A6 (in), 7 A5 (in), 8 A4 (in), 9 A3 (in), 10 A2 (in), 11 A1 (in), 12 A0 (in), 13 DQ0 (io), 14 DQ1 (io), 15 DQ2 (io), 16 GND (power), 17 DQ3 (io), 18 DQ4 (io), 19 DQ5 (io), 20 DQ6 (io), 21 DQ7 (io), 22 ~{CE} (in), 23 A10 (in), 24 ~{OE} (in), 25 A11 (in), 26 A9 (in), 27 A8 (in), 28 A13 (in), 29 A14 (in), 30 A17 (in), 31 ~{WE} (in), 32 VCC (power)

## M29F040-90XK1
designator U?
4 Mbit (512Kb x8, Block Erase) Single Supply Flash Memory; Published: 24-Aug-2001; LatestRevisionDate: 17-Jul-2002; LatestRevisionNote: Re-released for DXP Platform.; DatasheetDocument: Nov-1999; PackageDocument: Jun-1998; PackageReference: PLCC32; Publisher: Altium Limited; Code_JEDEC: MS-016-AE; Code_IPC: PLCC/R-32
footprint PLCC32 (Leaded Chip Carrier; 32 Leads; Body 11.4 x 14 mm)
pins: 1 A18 (in), 2 A16 (in), 3 A15 (in), 4 A12 (in), 5 A7 (in), 6 A6 (in), 7 A5 (in), 8 A4 (in), 9 A3 (in), 10 A2 (in), 11 A1 (in), 12 A0 (in), 13 DQ0 (io), 14 DQ1 (io), 15 DQ2 (io), 16 GND (power), 17 DQ3 (io), 18 DQ4 (io), 19 DQ5 (io), 20 DQ6 (io), 21 DQ7 (io), 22 ~{CE} (in), 23 A10 (in), 24 ~{OE} (in), 25 A11 (in), 26 A9 (in), 27 A8 (in), 28 A13 (in), 29 A14 (in), 30 A17 (in), 31 ~{WE} (in), 32 VCC (power)

## M29F040-90XK3
designator U?
4 Mbit (512Kb x8, Block Erase) Single Supply Flash Memory; Published: 24-Aug-2001; LatestRevisionDate: 17-Jul-2002; LatestRevisionNote: Re-released for DXP Platform.; DatasheetDocument: Nov-1999; PackageDocument: Jun-1998; PackageReference: PLCC32; Publisher: Altium Limited; Code_JEDEC: MS-016-AE; Code_IPC: PLCC/R-32
footprint PLCC32 (Leaded Chip Carrier; 32 Leads; Body 11.4 x 14 mm)
pins: 1 A18 (in), 2 A16 (in), 3 A15 (in), 4 A12 (in), 5 A7 (in), 6 A6 (in), 7 A5 (in), 8 A4 (in), 9 A3 (in), 10 A2 (in), 11 A1 (in), 12 A0 (in), 13 DQ0 (io), 14 DQ1 (io), 15 DQ2 (io), 16 GND (power), 17 DQ3 (io), 18 DQ4 (io), 19 DQ5 (io), 20 DQ6 (io), 21 DQ7 (io), 22 ~{CE} (in), 23 A10 (in), 24 ~{OE} (in), 25 A11 (in), 26 A9 (in), 27 A8 (in), 28 A13 (in), 29 A14 (in), 30 A17 (in), 31 ~{WE} (in), 32 VCC (power)

## M29F040-90XK5
designator U?
4 Mbit (512Kb x8, Block Erase) Single Supply Flash Memory; Published: 24-Aug-2001; LatestRevisionDate: 17-Jul-2002; LatestRevisionNote: Re-released for DXP Platform.; DatasheetDocument: Nov-1999; PackageDocument: Jun-1998; PackageReference: PLCC32; Publisher: Altium Limited; Code_JEDEC: MS-016-AE; Code_IPC: PLCC/R-32
footprint PLCC32 (Leaded Chip Carrier; 32 Leads; Body 11.4 x 14 mm)
pins: 1 A18 (in), 2 A16 (in), 3 A15 (in), 4 A12 (in), 5 A7 (in), 6 A6 (in), 7 A5 (in), 8 A4 (in), 9 A3 (in), 10 A2 (in), 11 A1 (in), 12 A0 (in), 13 DQ0 (io), 14 DQ1 (io), 15 DQ2 (io), 16 GND (power), 17 DQ3 (io), 18 DQ4 (io), 19 DQ5 (io), 20 DQ6 (io), 21 DQ7 (io), 22 ~{CE} (in), 23 A10 (in), 24 ~{OE} (in), 25 A11 (in), 26 A9 (in), 27 A8 (in), 28 A13 (in), 29 A14 (in), 30 A17 (in), 31 ~{WE} (in), 32 VCC (power)

## M29F040-90XK6
designator U?
4 Mbit (512Kb x8, Block Erase) Single Supply Flash Memory; Published: 24-Aug-2001; LatestRevisionDate: 17-Jul-2002; LatestRevisionNote: Re-released for DXP Platform.; DatasheetDocument: Nov-1999; PackageDocument: Jun-1998; PackageReference: PLCC32; Publisher: Altium Limited; Code_JEDEC: MS-016-AE; Code_IPC: PLCC/R-32
footprint PLCC32 (Leaded Chip Carrier; 32 Leads; Body 11.4 x 14 mm)
pins: 1 A18 (in), 2 A16 (in), 3 A15 (in), 4 A12 (in), 5 A7 (in), 6 A6 (in), 7 A5 (in), 8 A4 (in), 9 A3 (in), 10 A2 (in), 11 A1 (in), 12 A0 (in), 13 DQ0 (io), 14 DQ1 (io), 15 DQ2 (io), 16 GND (power), 17 DQ3 (io), 18 DQ4 (io), 19 DQ5 (io), 20 DQ6 (io), 21 DQ7 (io), 22 ~{CE} (in), 23 A10 (in), 24 ~{OE} (in), 25 A11 (in), 26 A9 (in), 27 A8 (in), 28 A13 (in), 29 A14 (in), 30 A17 (in), 31 ~{WE} (in), 32 VCC (power)

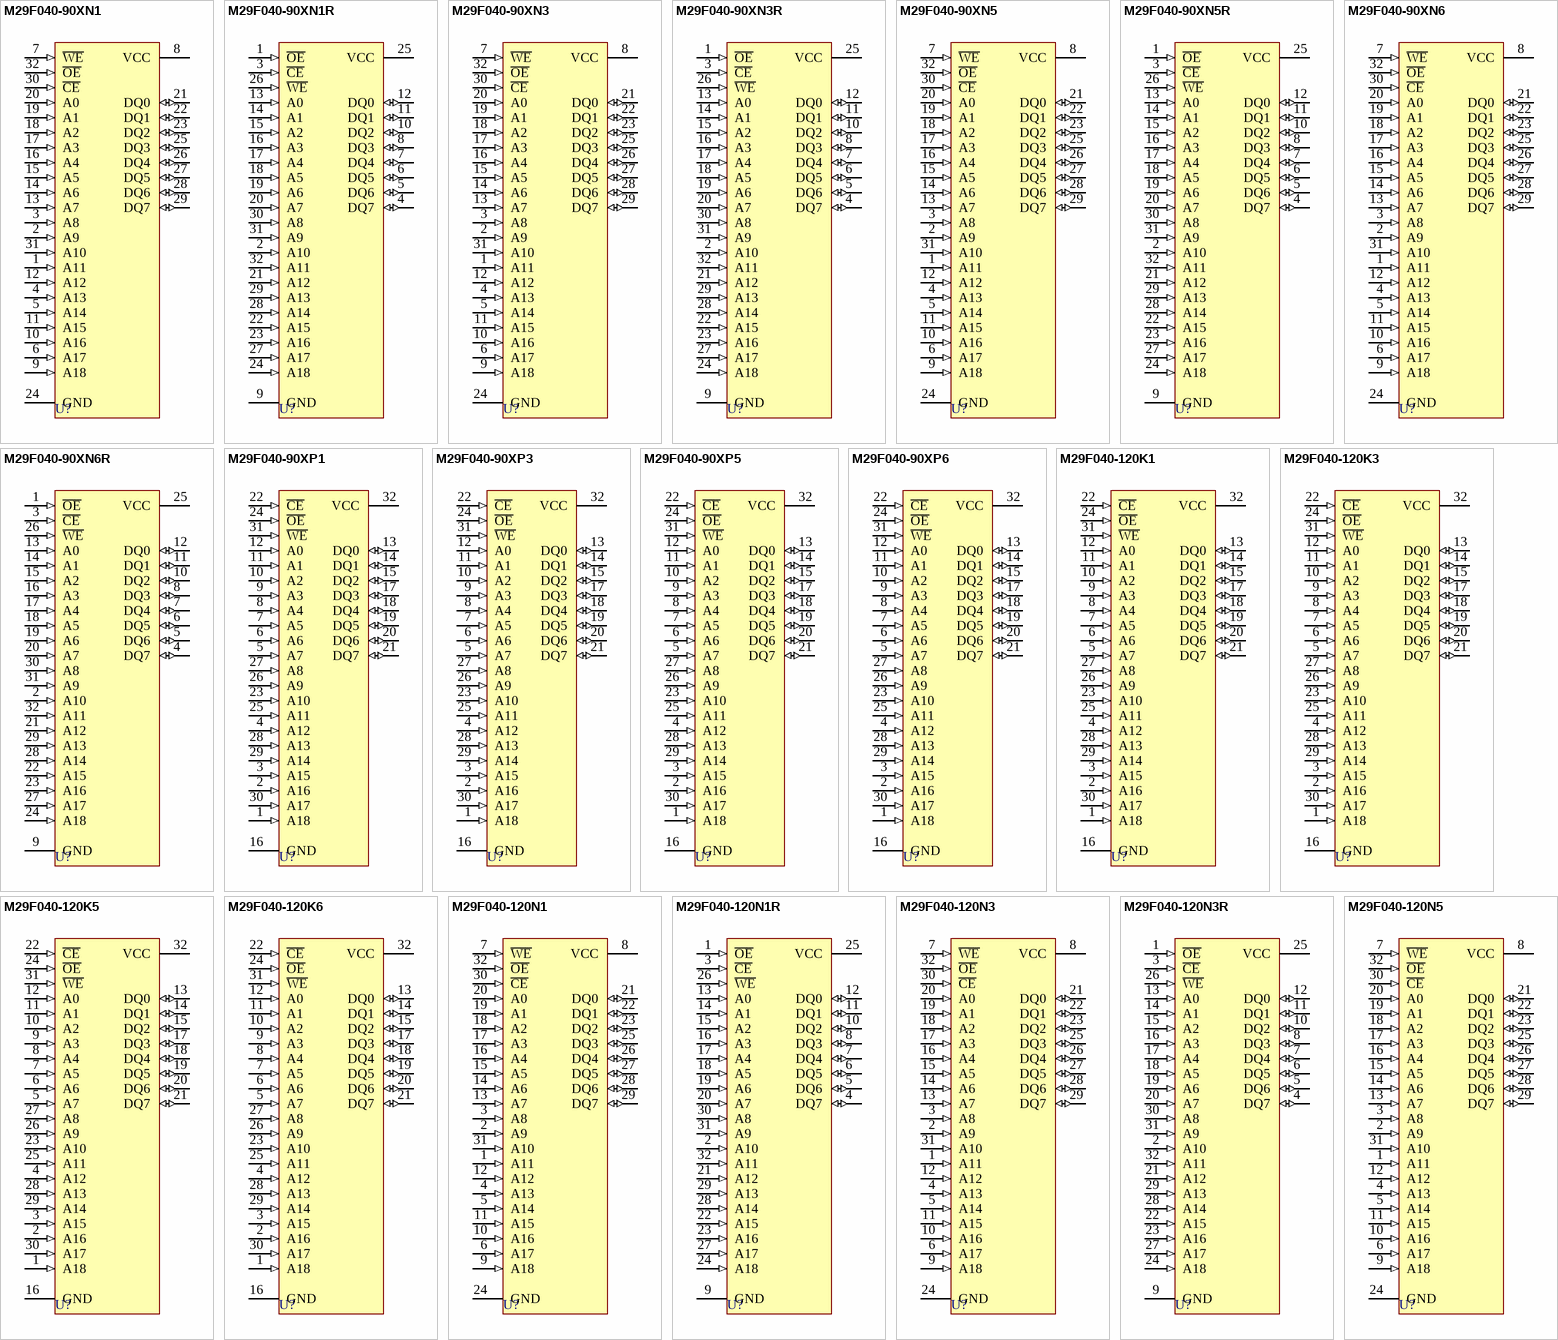
[diagram p54: symbols M29F040-90XN1 to M29F040-120N5]

## M29F040-90XN1
designator U?
4 Mbit (512Kb x8, Block Erase) Single Supply Flash Memory; Published: 24-Aug-2001; LatestRevisionDate: 26-May-2004; LatestRevisionNote: Pad length of PCB Footprint increased.; DatasheetDocument: Nov-1999; PackageDocument: Mar-1999; PackageReference: TSOP32; Publisher: Altium Limited; Code_JEDEC: MO-142-BD
footprint TSOP32 (Shrink Small Outline, Plastic, Thin; 32 Leads; Body Width 18.4 mm; Pitch 0.5 mm)
pins: 1 A11 (in), 2 A9 (in), 3 A8 (in), 4 A13 (in), 5 A14 (in), 6 A17 (in), 7 ~{WE} (in), 8 VCC (power), 9 A18 (in), 10 A16 (in), 11 A15 (in), 12 A12 (in), 13 A7 (in), 14 A6 (in), 15 A5 (in), 16 A4 (in), 17 A3 (in), 18 A2 (in), 19 A1 (in), 20 A0 (in), 21 DQ0 (io), 22 DQ1 (io), 23 DQ2 (io), 24 GND (power), 25 DQ3 (io), 26 DQ4 (io), 27 DQ5 (io), 28 DQ6 (io), 29 DQ7 (io), 30 ~{CE} (in), 31 A10 (in), 32 ~{OE} (in)

## M29F040-90XN1R
designator U?
4 Mbit (512Kb x8, Block Erase) Single Supply Flash Memory; Published: 24-Aug-2001; LatestRevisionDate: 26-May-2004; LatestRevisionNote: Pad length of PCB Footprint increased.; DatasheetDocument: Nov-1999; PackageDocument: Mar-1999; PackageReference: TSOP32; Publisher: Altium Limited; Code_JEDEC: MO-142-BD
footprint TSOP32 (Shrink Small Outline, Plastic, Thin; 32 Leads; Body Width 18.4 mm; Pitch 0.5 mm)
pins: 1 ~{OE} (in), 2 A10 (in), 3 ~{CE} (in), 4 DQ7 (io), 5 DQ6 (io), 6 DQ5 (io), 7 DQ4 (io), 8 DQ3 (io), 9 GND (power), 10 DQ2 (io), 11 DQ1 (io), 12 DQ0 (io), 13 A0 (in), 14 A1 (in), 15 A2 (in), 16 A3 (in), 17 A4 (in), 18 A5 (in), 19 A6 (in), 20 A7 (in), 21 A12 (in), 22 A15 (in), 23 A16 (in), 24 A18 (in), 25 VCC (power), 26 ~{WE} (in), 27 A17 (in), 28 A14 (in), 29 A13 (in), 30 A8 (in), 31 A9 (in), 32 A11 (in)

## M29F040-90XN3
designator U?
4 Mbit (512Kb x8, Block Erase) Single Supply Flash Memory; Published: 24-Aug-2001; LatestRevisionDate: 26-May-2004; LatestRevisionNote: Pad length of PCB Footprint increased.; DatasheetDocument: Nov-1999; PackageDocument: Mar-1999; PackageReference: TSOP32; Publisher: Altium Limited; Code_JEDEC: MO-142-BD
footprint TSOP32 (Shrink Small Outline, Plastic, Thin; 32 Leads; Body Width 18.4 mm; Pitch 0.5 mm)
pins: 1 A11 (in), 2 A9 (in), 3 A8 (in), 4 A13 (in), 5 A14 (in), 6 A17 (in), 7 ~{WE} (in), 8 VCC (power), 9 A18 (in), 10 A16 (in), 11 A15 (in), 12 A12 (in), 13 A7 (in), 14 A6 (in), 15 A5 (in), 16 A4 (in), 17 A3 (in), 18 A2 (in), 19 A1 (in), 20 A0 (in), 21 DQ0 (io), 22 DQ1 (io), 23 DQ2 (io), 24 GND (power), 25 DQ3 (io), 26 DQ4 (io), 27 DQ5 (io), 28 DQ6 (io), 29 DQ7 (io), 30 ~{CE} (in), 31 A10 (in), 32 ~{OE} (in)

## M29F040-90XN3R
designator U?
4 Mbit (512Kb x8, Block Erase) Single Supply Flash Memory; Published: 24-Aug-2001; LatestRevisionDate: 26-May-2004; LatestRevisionNote: Pad length of PCB Footprint increased.; DatasheetDocument: Nov-1999; PackageDocument: Mar-1999; PackageReference: TSOP32; Publisher: Altium Limited; Code_JEDEC: MO-142-BD
footprint TSOP32 (Shrink Small Outline, Plastic, Thin; 32 Leads; Body Width 18.4 mm; Pitch 0.5 mm)
pins: 1 ~{OE} (in), 2 A10 (in), 3 ~{CE} (in), 4 DQ7 (io), 5 DQ6 (io), 6 DQ5 (io), 7 DQ4 (io), 8 DQ3 (io), 9 GND (power), 10 DQ2 (io), 11 DQ1 (io), 12 DQ0 (io), 13 A0 (in), 14 A1 (in), 15 A2 (in), 16 A3 (in), 17 A4 (in), 18 A5 (in), 19 A6 (in), 20 A7 (in), 21 A12 (in), 22 A15 (in), 23 A16 (in), 24 A18 (in), 25 VCC (power), 26 ~{WE} (in), 27 A17 (in), 28 A14 (in), 29 A13 (in), 30 A8 (in), 31 A9 (in), 32 A11 (in)

## M29F040-90XN5
designator U?
4 Mbit (512Kb x8, Block Erase) Single Supply Flash Memory; Published: 24-Aug-2001; LatestRevisionDate: 26-May-2004; LatestRevisionNote: Pad length of PCB Footprint increased.; DatasheetDocument: Nov-1999; PackageDocument: Mar-1999; PackageReference: TSOP32; Publisher: Altium Limited; Code_JEDEC: MO-142-BD
footprint TSOP32 (Shrink Small Outline, Plastic, Thin; 32 Leads; Body Width 18.4 mm; Pitch 0.5 mm)
pins: 1 A11 (in), 2 A9 (in), 3 A8 (in), 4 A13 (in), 5 A14 (in), 6 A17 (in), 7 ~{WE} (in), 8 VCC (power), 9 A18 (in), 10 A16 (in), 11 A15 (in), 12 A12 (in), 13 A7 (in), 14 A6 (in), 15 A5 (in), 16 A4 (in), 17 A3 (in), 18 A2 (in), 19 A1 (in), 20 A0 (in), 21 DQ0 (io), 22 DQ1 (io), 23 DQ2 (io), 24 GND (power), 25 DQ3 (io), 26 DQ4 (io), 27 DQ5 (io), 28 DQ6 (io), 29 DQ7 (io), 30 ~{CE} (in), 31 A10 (in), 32 ~{OE} (in)

## M29F040-90XN5R
designator U?
4 Mbit (512Kb x8, Block Erase) Single Supply Flash Memory; Published: 24-Aug-2001; LatestRevisionDate: 26-May-2004; LatestRevisionNote: Pad length of PCB Footprint increased.; DatasheetDocument: Nov-1999; PackageDocument: Mar-1999; PackageReference: TSOP32; Publisher: Altium Limited; Code_JEDEC: MO-142-BD
footprint TSOP32 (Shrink Small Outline, Plastic, Thin; 32 Leads; Body Width 18.4 mm; Pitch 0.5 mm)
pins: 1 ~{OE} (in), 2 A10 (in), 3 ~{CE} (in), 4 DQ7 (io), 5 DQ6 (io), 6 DQ5 (io), 7 DQ4 (io), 8 DQ3 (io), 9 GND (power), 10 DQ2 (io), 11 DQ1 (io), 12 DQ0 (io), 13 A0 (in), 14 A1 (in), 15 A2 (in), 16 A3 (in), 17 A4 (in), 18 A5 (in), 19 A6 (in), 20 A7 (in), 21 A12 (in), 22 A15 (in), 23 A16 (in), 24 A18 (in), 25 VCC (power), 26 ~{WE} (in), 27 A17 (in), 28 A14 (in), 29 A13 (in), 30 A8 (in), 31 A9 (in), 32 A11 (in)

## M29F040-90XN6
designator U?
4 Mbit (512Kb x8, Block Erase) Single Supply Flash Memory; Published: 24-Aug-2001; LatestRevisionDate: 26-May-2004; LatestRevisionNote: Pad length of PCB Footprint increased.; DatasheetDocument: Nov-1999; PackageDocument: Mar-1999; PackageReference: TSOP32; Publisher: Altium Limited; Code_JEDEC: MO-142-BD
footprint TSOP32 (Shrink Small Outline, Plastic, Thin; 32 Leads; Body Width 18.4 mm; Pitch 0.5 mm)
pins: 1 A11 (in), 2 A9 (in), 3 A8 (in), 4 A13 (in), 5 A14 (in), 6 A17 (in), 7 ~{WE} (in), 8 VCC (power), 9 A18 (in), 10 A16 (in), 11 A15 (in), 12 A12 (in), 13 A7 (in), 14 A6 (in), 15 A5 (in), 16 A4 (in), 17 A3 (in), 18 A2 (in), 19 A1 (in), 20 A0 (in), 21 DQ0 (io), 22 DQ1 (io), 23 DQ2 (io), 24 GND (power), 25 DQ3 (io), 26 DQ4 (io), 27 DQ5 (io), 28 DQ6 (io), 29 DQ7 (io), 30 ~{CE} (in), 31 A10 (in), 32 ~{OE} (in)

## M29F040-90XN6R
designator U?
4 Mbit (512Kb x8, Block Erase) Single Supply Flash Memory; Published: 24-Aug-2001; LatestRevisionDate: 26-May-2004; LatestRevisionNote: Pad length of PCB Footprint increased.; DatasheetDocument: Nov-1999; PackageDocument: Mar-1999; PackageReference: TSOP32; Publisher: Altium Limited; Code_JEDEC: MO-142-BD
footprint TSOP32 (Shrink Small Outline, Plastic, Thin; 32 Leads; Body Width 18.4 mm; Pitch 0.5 mm)
pins: 1 ~{OE} (in), 2 A10 (in), 3 ~{CE} (in), 4 DQ7 (io), 5 DQ6 (io), 6 DQ5 (io), 7 DQ4 (io), 8 DQ3 (io), 9 GND (power), 10 DQ2 (io), 11 DQ1 (io), 12 DQ0 (io), 13 A0 (in), 14 A1 (in), 15 A2 (in), 16 A3 (in), 17 A4 (in), 18 A5 (in), 19 A6 (in), 20 A7 (in), 21 A12 (in), 22 A15 (in), 23 A16 (in), 24 A18 (in), 25 VCC (power), 26 ~{WE} (in), 27 A17 (in), 28 A14 (in), 29 A13 (in), 30 A8 (in), 31 A9 (in), 32 A11 (in)

## M29F040-90XP1
designator U?
4 Mbit (512K x 8, Block Erase) Single Supply Flash Memory; PackageDocument: 1998; Published: 24-Aug-2001; LatestRevisionDate: 17-Jul-2002; LatestRevisionNote: Re-released for DXP Platform.; DatasheetDocument: Jun-1995; PackageReference: PDIP32; Publisher: Altium Limited
footprint PDIP32 (DIP, Plastic; 32 Leads; Row Spacing 15.24 mm; Pitch 2.54 mm)
pins: 1 A18 (in), 2 A16 (in), 3 A15 (in), 4 A12 (in), 5 A7 (in), 6 A6 (in), 7 A5 (in), 8 A4 (in), 9 A3 (in), 10 A2 (in), 11 A1 (in), 12 A0 (in), 13 DQ0 (io), 14 DQ1 (io), 15 DQ2 (io), 16 GND (power), 17 DQ3 (io), 18 DQ4 (io), 19 DQ5 (io), 20 DQ6 (io), 21 DQ7 (io), 22 ~{CE} (in), 23 A10 (in), 24 ~{OE} (in), 25 A11 (in), 26 A9 (in), 27 A8 (in), 28 A13 (in), 29 A14 (in), 30 A17 (in), 31 ~{WE} (in), 32 VCC (power)

## M29F040-90XP3
designator U?
4 Mbit (512K x 8, Block Erase) Single Supply Flash Memory; PackageDocument: 1998; Published: 24-Aug-2001; LatestRevisionDate: 17-Jul-2002; LatestRevisionNote: Re-released for DXP Platform.; DatasheetDocument: Jun-1995; PackageReference: PDIP32; Publisher: Altium Limited
footprint PDIP32 (DIP, Plastic; 32 Leads; Row Spacing 15.24 mm; Pitch 2.54 mm)
pins: 1 A18 (in), 2 A16 (in), 3 A15 (in), 4 A12 (in), 5 A7 (in), 6 A6 (in), 7 A5 (in), 8 A4 (in), 9 A3 (in), 10 A2 (in), 11 A1 (in), 12 A0 (in), 13 DQ0 (io), 14 DQ1 (io), 15 DQ2 (io), 16 GND (power), 17 DQ3 (io), 18 DQ4 (io), 19 DQ5 (io), 20 DQ6 (io), 21 DQ7 (io), 22 ~{CE} (in), 23 A10 (in), 24 ~{OE} (in), 25 A11 (in), 26 A9 (in), 27 A8 (in), 28 A13 (in), 29 A14 (in), 30 A17 (in), 31 ~{WE} (in), 32 VCC (power)

## M29F040-90XP5
designator U?
4 Mbit (512K x 8, Block Erase) Single Supply Flash Memory; PackageDocument: 1998; Published: 24-Aug-2001; LatestRevisionDate: 17-Jul-2002; LatestRevisionNote: Re-released for DXP Platform.; DatasheetDocument: Jun-1995; PackageReference: PDIP32; Publisher: Altium Limited
footprint PDIP32 (DIP, Plastic; 32 Leads; Row Spacing 15.24 mm; Pitch 2.54 mm)
pins: 1 A18 (in), 2 A16 (in), 3 A15 (in), 4 A12 (in), 5 A7 (in), 6 A6 (in), 7 A5 (in), 8 A4 (in), 9 A3 (in), 10 A2 (in), 11 A1 (in), 12 A0 (in), 13 DQ0 (io), 14 DQ1 (io), 15 DQ2 (io), 16 GND (power), 17 DQ3 (io), 18 DQ4 (io), 19 DQ5 (io), 20 DQ6 (io), 21 DQ7 (io), 22 ~{CE} (in), 23 A10 (in), 24 ~{OE} (in), 25 A11 (in), 26 A9 (in), 27 A8 (in), 28 A13 (in), 29 A14 (in), 30 A17 (in), 31 ~{WE} (in), 32 VCC (power)

## M29F040-90XP6
designator U?
4 Mbit (512K x 8, Block Erase) Single Supply Flash Memory; PackageDocument: 1998; Published: 24-Aug-2001; LatestRevisionDate: 17-Jul-2002; LatestRevisionNote: Re-released for DXP Platform.; DatasheetDocument: Jun-1995; PackageReference: PDIP32; Publisher: Altium Limited
footprint PDIP32 (DIP, Plastic; 32 Leads; Row Spacing 15.24 mm; Pitch 2.54 mm)
pins: 1 A18 (in), 2 A16 (in), 3 A15 (in), 4 A12 (in), 5 A7 (in), 6 A6 (in), 7 A5 (in), 8 A4 (in), 9 A3 (in), 10 A2 (in), 11 A1 (in), 12 A0 (in), 13 DQ0 (io), 14 DQ1 (io), 15 DQ2 (io), 16 GND (power), 17 DQ3 (io), 18 DQ4 (io), 19 DQ5 (io), 20 DQ6 (io), 21 DQ7 (io), 22 ~{CE} (in), 23 A10 (in), 24 ~{OE} (in), 25 A11 (in), 26 A9 (in), 27 A8 (in), 28 A13 (in), 29 A14 (in), 30 A17 (in), 31 ~{WE} (in), 32 VCC (power)

## M29F040-120K1
designator U?
4 Mbit (512Kb x8, Uniform Block) Single Supply Flash Memory; Published: 24-Aug-2001; LatestRevisionDate: 17-Jul-2002; LatestRevisionNote: Re-released for DXP Platform.; DatasheetDocument: Nov-1999; PackageDocument: Jun-1998; PackageReference: PLCC32; Publisher: Altium Limited; Code_JEDEC: MS-016-AE; Code_IPC: PLCC/R-32
footprint PLCC32 (Leaded Chip Carrier; 32 Leads; Body 11.4 x 14 mm)
pins: 1 A18 (in), 2 A16 (in), 3 A15 (in), 4 A12 (in), 5 A7 (in), 6 A6 (in), 7 A5 (in), 8 A4 (in), 9 A3 (in), 10 A2 (in), 11 A1 (in), 12 A0 (in), 13 DQ0 (io), 14 DQ1 (io), 15 DQ2 (io), 16 GND (power), 17 DQ3 (io), 18 DQ4 (io), 19 DQ5 (io), 20 DQ6 (io), 21 DQ7 (io), 22 ~{CE} (in), 23 A10 (in), 24 ~{OE} (in), 25 A11 (in), 26 A9 (in), 27 A8 (in), 28 A13 (in), 29 A14 (in), 30 A17 (in), 31 ~{WE} (in), 32 VCC (power)

## M29F040-120K3
designator U?
4 Mbit (512Kb x8, Uniform Block) Single Supply Flash Memory; Published: 24-Aug-2001; LatestRevisionDate: 17-Jul-2002; LatestRevisionNote: Re-released for DXP Platform.; DatasheetDocument: Nov-1999; PackageDocument: Jun-1998; PackageReference: PLCC32; Publisher: Altium Limited; Code_JEDEC: MS-016-AE; Code_IPC: PLCC/R-32
footprint PLCC32 (Leaded Chip Carrier; 32 Leads; Body 11.4 x 14 mm)
pins: 1 A18 (in), 2 A16 (in), 3 A15 (in), 4 A12 (in), 5 A7 (in), 6 A6 (in), 7 A5 (in), 8 A4 (in), 9 A3 (in), 10 A2 (in), 11 A1 (in), 12 A0 (in), 13 DQ0 (io), 14 DQ1 (io), 15 DQ2 (io), 16 GND (power), 17 DQ3 (io), 18 DQ4 (io), 19 DQ5 (io), 20 DQ6 (io), 21 DQ7 (io), 22 ~{CE} (in), 23 A10 (in), 24 ~{OE} (in), 25 A11 (in), 26 A9 (in), 27 A8 (in), 28 A13 (in), 29 A14 (in), 30 A17 (in), 31 ~{WE} (in), 32 VCC (power)

## M29F040-120K5
designator U?
4 Mbit (512Kb x8, Uniform Block) Single Supply Flash Memory; Published: 24-Aug-2001; LatestRevisionDate: 17-Jul-2002; LatestRevisionNote: Re-released for DXP Platform.; DatasheetDocument: Nov-1999; PackageDocument: Jun-1998; PackageReference: PLCC32; Publisher: Altium Limited; Code_JEDEC: MS-016-AE; Code_IPC: PLCC/R-32
footprint PLCC32 (Leaded Chip Carrier; 32 Leads; Body 11.4 x 14 mm)
pins: 1 A18 (in), 2 A16 (in), 3 A15 (in), 4 A12 (in), 5 A7 (in), 6 A6 (in), 7 A5 (in), 8 A4 (in), 9 A3 (in), 10 A2 (in), 11 A1 (in), 12 A0 (in), 13 DQ0 (io), 14 DQ1 (io), 15 DQ2 (io), 16 GND (power), 17 DQ3 (io), 18 DQ4 (io), 19 DQ5 (io), 20 DQ6 (io), 21 DQ7 (io), 22 ~{CE} (in), 23 A10 (in), 24 ~{OE} (in), 25 A11 (in), 26 A9 (in), 27 A8 (in), 28 A13 (in), 29 A14 (in), 30 A17 (in), 31 ~{WE} (in), 32 VCC (power)

## M29F040-120K6
designator U?
4 Mbit (512Kb x8, Uniform Block) Single Supply Flash Memory; Published: 24-Aug-2001; LatestRevisionDate: 17-Jul-2002; LatestRevisionNote: Re-released for DXP Platform.; DatasheetDocument: Nov-1999; PackageDocument: Jun-1998; PackageReference: PLCC32; Publisher: Altium Limited; Code_JEDEC: MS-016-AE; Code_IPC: PLCC/R-32
footprint PLCC32 (Leaded Chip Carrier; 32 Leads; Body 11.4 x 14 mm)
pins: 1 A18 (in), 2 A16 (in), 3 A15 (in), 4 A12 (in), 5 A7 (in), 6 A6 (in), 7 A5 (in), 8 A4 (in), 9 A3 (in), 10 A2 (in), 11 A1 (in), 12 A0 (in), 13 DQ0 (io), 14 DQ1 (io), 15 DQ2 (io), 16 GND (power), 17 DQ3 (io), 18 DQ4 (io), 19 DQ5 (io), 20 DQ6 (io), 21 DQ7 (io), 22 ~{CE} (in), 23 A10 (in), 24 ~{OE} (in), 25 A11 (in), 26 A9 (in), 27 A8 (in), 28 A13 (in), 29 A14 (in), 30 A17 (in), 31 ~{WE} (in), 32 VCC (power)

## M29F040-120N1
designator U?
4 Mbit (512Kb x8, Uniform Block) Single Supply Flash Memory; Published: 24-Aug-2001; LatestRevisionDate: 26-May-2004; LatestRevisionNote: Pad length of PCB Footprint increased.; DatasheetDocument: Nov-1999; PackageDocument: Mar-1999; PackageReference: TSOP32; Publisher: Altium Limited; Code_JEDEC: MO-142-BD
footprint TSOP32 (Shrink Small Outline, Plastic, Thin; 32 Leads; Body Width 18.4 mm; Pitch 0.5 mm)
pins: 1 A11 (in), 2 A9 (in), 3 A8 (in), 4 A13 (in), 5 A14 (in), 6 A17 (in), 7 ~{WE} (in), 8 VCC (power), 9 A18 (in), 10 A16 (in), 11 A15 (in), 12 A12 (in), 13 A7 (in), 14 A6 (in), 15 A5 (in), 16 A4 (in), 17 A3 (in), 18 A2 (in), 19 A1 (in), 20 A0 (in), 21 DQ0 (io), 22 DQ1 (io), 23 DQ2 (io), 24 GND (power), 25 DQ3 (io), 26 DQ4 (io), 27 DQ5 (io), 28 DQ6 (io), 29 DQ7 (io), 30 ~{CE} (in), 31 A10 (in), 32 ~{OE} (in)

## M29F040-120N1R
designator U?
4 Mbit (512Kb x8, Uniform Block) Single Supply Flash Memory; Published: 24-Aug-2001; LatestRevisionDate: 26-May-2004; LatestRevisionNote: Pad length of PCB Footprint increased.; DatasheetDocument: Nov-1999; PackageDocument: Mar-1999; PackageReference: TSOP32; Publisher: Altium Limited; Code_JEDEC: MO-142-BD
footprint TSOP32 (Shrink Small Outline, Plastic, Thin; 32 Leads; Body Width 18.4 mm; Pitch 0.5 mm)
pins: 1 ~{OE} (in), 2 A10 (in), 3 ~{CE} (in), 4 DQ7 (io), 5 DQ6 (io), 6 DQ5 (io), 7 DQ4 (io), 8 DQ3 (io), 9 GND (power), 10 DQ2 (io), 11 DQ1 (io), 12 DQ0 (io), 13 A0 (in), 14 A1 (in), 15 A2 (in), 16 A3 (in), 17 A4 (in), 18 A5 (in), 19 A6 (in), 20 A7 (in), 21 A12 (in), 22 A15 (in), 23 A16 (in), 24 A18 (in), 25 VCC (power), 26 ~{WE} (in), 27 A17 (in), 28 A14 (in), 29 A13 (in), 30 A8 (in), 31 A9 (in), 32 A11 (in)